# Altium integrated library My_Library_SMD_Zener_Diode.IntLib: 1 symbol
Pins are listed as number, name and electrical type; pins without a type are passive.

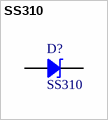
[diagram p0: symbol SS310]

## SS310
designator D?
Zener Diode; Part Number: SS310
footprint DO214AA SMB (Molded Diode, 2-Leads, Body 4.31x3.62mm, IPC Medium Density)
pins: 1, 2